# EAGLE library part SC310 (library chlk_bot)
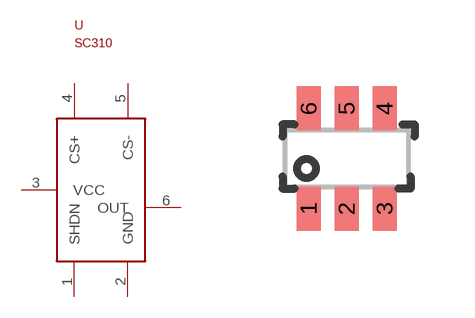
[diagram p5: symbol with the pads of SOT-23-6; footprint SOT-23-6]

Designator prefix -

## SC310  [SOT-23-6]
1  SHDN
2  GND
3  VCC
4  CS+
5  CS-
6  OUT

## Footprint SOT-23-6 (pad centres in mm)
smd 0.6 x 1.1: 1 -0.95,-1.5; 2 0,-1.5; 3 0.95,-1.5; 4 0.95,1; 5 0,1; 6 -0.95,1